# Altium footprint library Mechanical.PcbLib: 12 footprints
Each footprint in its own frame and in the unit in brackets; x right, y up, seen from the top. Pads: shape width x height; smd on the part's side, far side on the other; paste and mask are expansions set on the pad; w line width, h text height; cw(c..) or ccw(c..) is an arc to the next point about the centre after c.
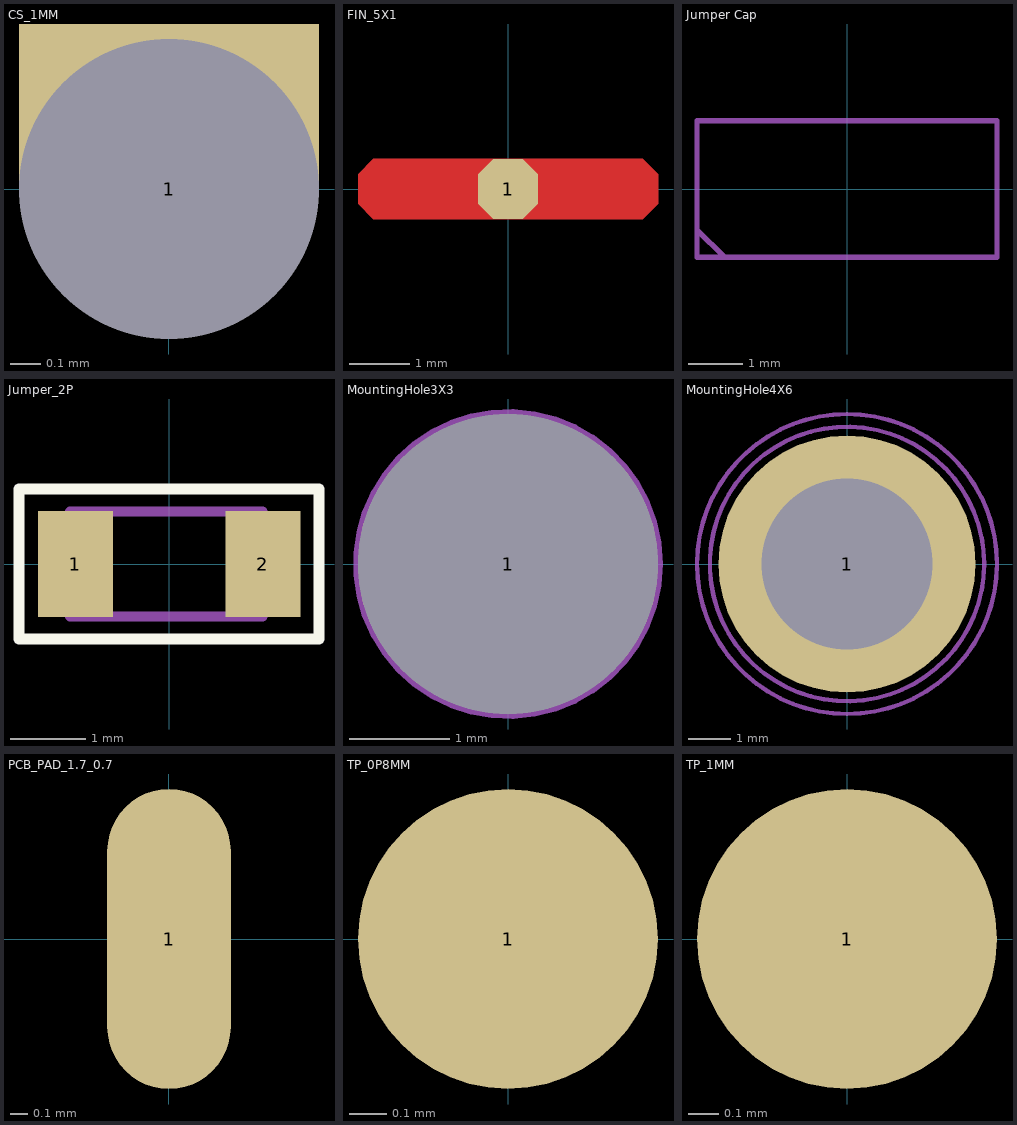
[diagram p0: the footprints below, top view; thin cyan lines are the x and y axes]

## CS_1MM [mm]
pads (1):
  rect 1x1 hole 1 copper offset 0,0.5 mask+0.01: 1(0,0)

## FIN_5X1 [mm]
pads (1):
  oct 1x1 smd: 1(0,0)
Top Layer:
  region: -2.25,-0.5 -2.5,-0.25 -2.5,0.25 -2.25,0.5 2.25,0.5 2.5,0.25 2.5,-0.25 2.25,-0.5
3D body: height 0.25, standoff 0, extent -2.5,-0.5 2.5,0.5

## Jumper Cap [mm]
Mechanical 1:
  lines w0.1: -2.75,-0.75 -2.25,-1.25 ; -2.75,-1.25 2.75,-1.25 2.75,1.25 -2.75,1.25 -2.75,-1.25
Mechanical 15:
  lines w0.1: -2.75,-0.75 -2.25,-1.25 ; -2.75,-1.25 -2.75,1.25 2.75,1.25 2.75,-1.25 -2.75,-1.25

## Jumper_2P [mm]
pads (2):
  rect 1x1.42 smd: 1(-1.25,0) 2(1.25,0)
Top Overlay:
  lines w0.152: -2,-1 -2,1 2,1 2,-1 -2,-1
Mechanical 13:
  lines w0.127: -1.32,-0.7 1.25,-0.7 1.25,0.7 -1.32,0.7 -1.32,-0.7
Mechanical 15:
  lines w0.05: -2,-1 2,-1 2,1 -2,1 -2,-1

## MountingHole3X3 [mm]
pads (1):
  round 3 hole 3: 1(0,0)
Mechanical 13:
  lines w0.1: 1.5,0 ccw(c0,0) 1.5,0
Mechanical 15:
  lines w0.1: 1.5,0 ccw(c0,0) 1.5,0

## MountingHole4X6 [mm] "ID 4 OD 6"
pads (1):
  round 6 hole 4: 1(0,0)
Mechanical 13:
  lines w0.1: 3.202,0 ccw(c0,0) 3.202,0
Mechanical 15:
  lines w0.1: 3.5,0 ccw(c0,0) 3.5,0

## PCB_PAD_1.7_0.7 [mm]
pads (1):
  oval 0.7x1.7 smd mask+0.05: 1(0,0)

## PH_M_2P54_7P_RA [mm]

## SCTRM_5P08_3P [mm]

## SCTRM_5P08_4P [mm]

## TP_0P8MM [mm]
height 0.035
pads (1):
  round 0.8 smd mask+0: 1(0,0)

## TP_1MM [mm]
pads (1):
  round 1 smd: 1(0,0)